# EAGLE library part OLED_WG128064096BG30 (library mike-temp)
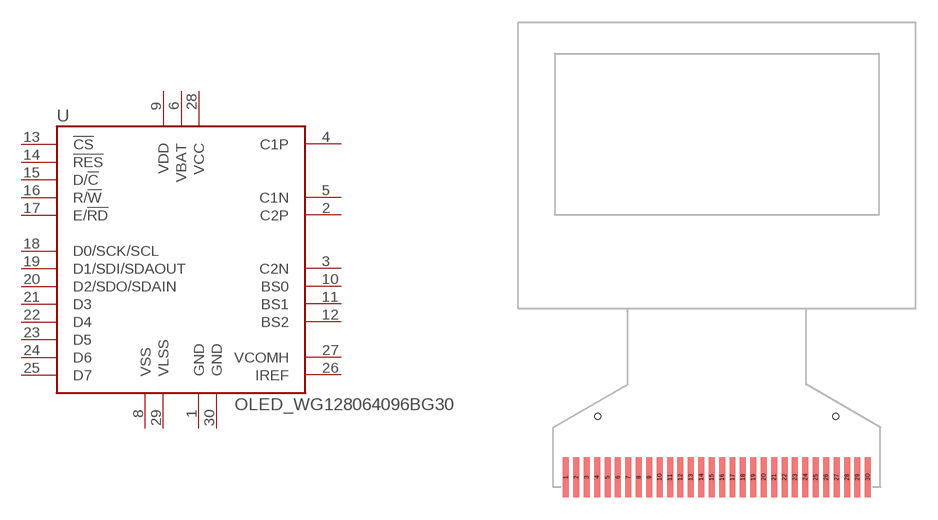
[diagram p23: symbol with the pads of OLED_COG; footprint OLED_COG]

Designator prefix U

## OLED_WG128064096BG30  [OLED_COG]
1  GND
2  C2P
3  C2N
4  C1P
5  C1N
6  VBAT
8  VSS
9  VDD
10  BS0  in
11  BS1  in
12  BS2  in
13  !CS!  in
14  !RES!  in
15  D/!C!  in
16  R/!W!  in
17  E/!RD!  in
18  D0/SCK/SCL
19  D1/SDI/SDAOUT
20  D2/SDO/SDAIN
21  D3
22  D4
23  D5
24  D6
25  D7
26  IREF
27  VCOMH
28  VCC
29  VLSS
30  GND

## Footprint OLED_COG (pad centres in mm)
smd 0.4 x 2.7: 1 -10.15,0.65; 2 -9.45,0.65; 3 -8.75,0.65; 4 -8.05,0.65; 5 -7.35,0.65; 6 -6.65,0.65; 7 -5.95,0.65; 8 -5.25,0.65; 9 -4.55,0.65; 10 -3.85,0.65; 11 -3.15,0.65; 12 -2.45,0.65; 13 -1.75,0.65; 14 -1.05,0.65; 15 -0.35,0.65; 16 0.35,0.65; 17 1.05,0.65; 18 1.75,0.65; 19 2.45,0.65; 20 3.15,0.65; 21 3.85,0.65; 22 4.55,0.65; 23 5.25,0.65; 24 5.95,0.65; 25 6.65,0.65; 26 7.35,0.65; 27 8.05,0.65; 28 8.75,0.65; 29 9.45,0.65; 30 10.15,0.65
hole 0.4 at -8,4.75
hole 0.4 at 8,4.75